# Altium footprint library PcbLib1.PcbLib: 1 footprints
Each footprint in its own frame and in the unit in brackets; x right, y up, seen from the top. Pads: shape width x height; smd on the part's side, far side on the other; paste and mask are expansions set on the pad; w line width, h text height; cw(c..) or ccw(c..) is an arc to the next point about the centre after c.
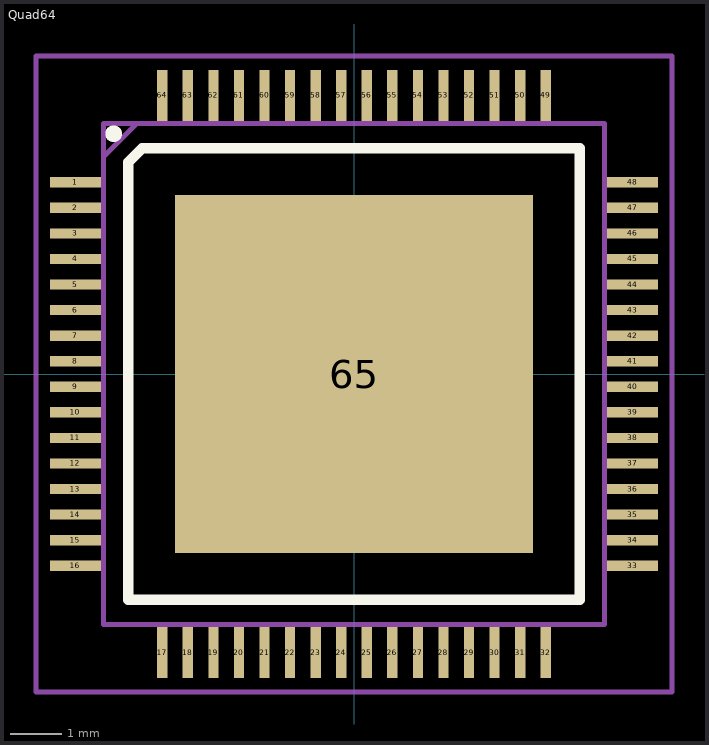
[diagram p0: the footprint, top view; thin cyan lines are the x and y axes]

## Quad64 [mm]
pads (65):
  rect 1x0.2 smd: 1(-5.45,3.75) 2(-5.45,3.25) 3(-5.45,2.75) 4(-5.45,2.25) 5(-5.45,1.75) 6(-5.45,1.25) 7(-5.45,0.75) 8(-5.45,0.25) 9(-5.45,-0.25) 10(-5.45,-0.75) 11(-5.45,-1.25) 12(-5.45,-1.75) 13(-5.45,-2.25) 14(-5.45,-2.75) 15(-5.45,-3.25) 16(-5.45,-3.75) 33(5.45,-3.75) 34(5.45,-3.25) 35(5.45,-2.75) 36(5.45,-2.25) 37(5.45,-1.75) 38(5.45,-1.25) 39(5.45,-0.75) 40(5.45,-0.25) 41(5.45,0.25) 42(5.45,0.75) 43(5.45,1.25) 44(5.45,1.75) 45(5.45,2.25) 46(5.45,2.75) 47(5.45,3.25) 48(5.45,3.75)
  rect 0.2x1 smd: 17(-3.75,-5.45) 18(-3.25,-5.45) 19(-2.75,-5.45) 20(-2.25,-5.45) 21(-1.75,-5.45) 22(-1.25,-5.45) 23(-0.75,-5.45) 24(-0.25,-5.45) 25(0.25,-5.45) 26(0.75,-5.45) 27(1.25,-5.45) 28(1.75,-5.45) 29(2.25,-5.45) 30(2.75,-5.45) 31(3.25,-5.45) 32(3.75,-5.45) 49(3.75,5.45) 50(3.25,5.45) 51(2.75,5.45) 52(2.25,5.45) 53(1.75,5.45) 54(1.25,5.45) 55(0.75,5.45) 56(0.25,5.45) 57(-0.25,5.45) 58(-0.75,5.45) 59(-1.25,5.45) 60(-1.75,5.45) 61(-2.25,5.45) 62(-2.75,5.45) 63(-3.25,5.45) 64(-3.75,5.45)
  rect 7x7 smd: 65(0,0)
Top Overlay:
  circle w0.254: c-4.699,4.699 r0.036
  lines w0.2: -4.415,-4.415 -4.415,4.145 -4.145,4.415 4.415,4.415 4.415,-4.415 -4.415,-4.415
Mechanical 13:
  lines w0.1: -4.902,4.14 -4.902,4.267 ; -4.902,4.204 -4.902,4.242 -4.242,4.902 ; -4.902,-4.902 4.902,-4.902 4.902,4.902 -4.902,4.902 -4.902,-4.902
Mechanical 15:
  lines w0.1: -6.223,-6.223 6.223,-6.223 6.223,6.223 -6.223,6.223 -6.223,-6.223
3D body "MC33771BTP1AE.stp": height 1.6, standoff 0, extent -6,-5.993 6,6.007